# EAGLE library part FAN5421BUCX (library kennethlimcp)
FAN5421 Single-Cell Li-Ion Switching Charger
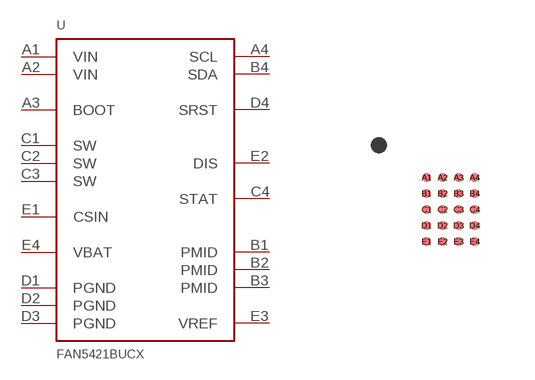
[diagram p11: symbol with the pads of WLCSP-20; footprint WLCSP-20]

Designator prefix U

## FAN5421BUCX  [WLCSP-20]
A1  VIN
A2  VIN
A3  BOOT
A4  SCL
B1  PMID
B2  PMID
B3  PMID
B4  SDA
C1  SW
C2  SW
C3  SW
C4  STAT
D1  PGND
D2  PGND
D3  PGND
D4  SRST
E1  CSIN
E2  DIS
E3  VREF
E4  VBAT

## Footprint WLCSP-20 (pad centres in mm)
smd 0.215 x 0.215: A1 0,1.6; A2 0.4,1.6; A3 0.8,1.6; A4 1.2,1.6; B1 0,1.2; B2 0.4,1.2; B3 0.8,1.2; B4 1.2,1.2; C1 0,0.8; C2 0.4,0.8; C3 0.8,0.8; C4 1.2,0.8; D1 0,0.4; D2 0.4,0.4; D3 0.8,0.4; D4 1.2,0.4; E1 0,0; E2 0.4,0; E3 0.8,0; E4 1.2,0